# Altium schematic symbol library TPA6211A1.SchLib: 1 symbol
Pins are listed as number, name and electrical type; pins without a type are passive.

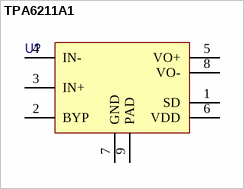
[diagram p0: symbol TPA6211A1]

## TPA6211A1
designator U?  (value not drawn)
pins: 1 SD, 2 BYP, 3 IN+, 4 IN-, 5 VO+, 6 VDD, 7 GND, 8 VO-, 9 PAD